# Altium footprint library Power MOSFET.PcbLib: 3 footprints
Each footprint in its own frame and in the unit in brackets; x right, y up, seen from the top. Pads: shape width x height; smd on the part's side, far side on the other; paste and mask are expansions set on the pad; w line width, h text height; cw(c..) or ccw(c..) is an arc to the next point about the centre after c.
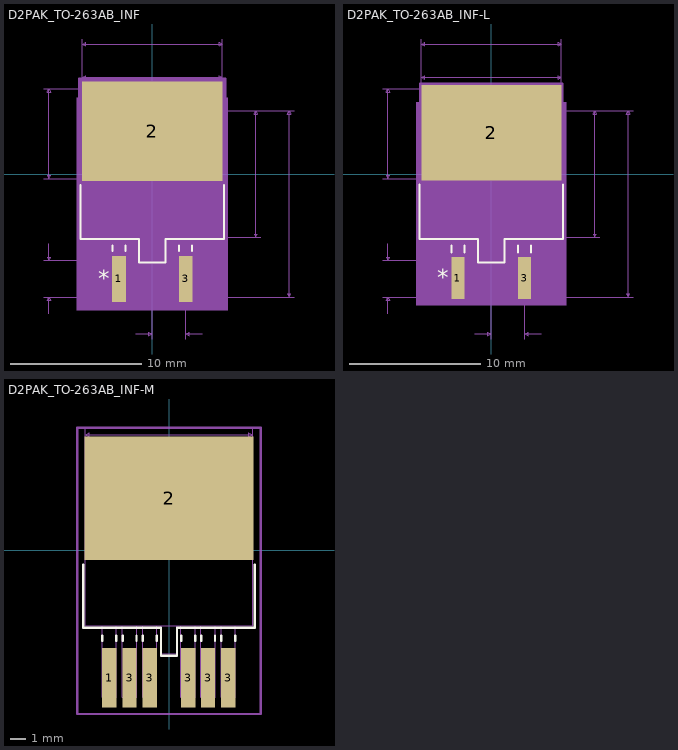
[diagram p0: the footprints below, top view; thin cyan lines are the x and y axes]

## D2PAK_TO-263AB_INF [mil]
pads (3):
  rect 41x138 smd paste+0 mask+0: 1(-100,-314) 3(100,-314)
  rect 422x298 smd paste+0 mask+0: 2(0,128)
Top Overlay:
  lines w6: -215,-33.47 -215,-195 -40,-195 -40,-265 40,-265 40,-195 215,-195 215,-33.47 ; -119.5,-231 -119.5,-214 ; -80.5,-231 -80.5,-214 ; 80.5,-231 80.5,-214 ; 119.5,-231 119.5,-214
  text "*" at -162.5,-339 h50
Mechanical 5:
  region: -226,229 226,229 226,-408 -226,-408
Mechanical 7:
  lines w1: -325,-369 0,-369 425,-369 ; -325,-259 0,-259 ; -325,-14 0,-14 ; -325,256 0,256 ; -310,-419 -310,-369 ; -310,-209 -310,-259 ; -210,305 -210,0 -210,405 ; -50,-479.5 0,-479.5 ; 0,-494.5 0,-279.5 ; 0,-190 325,-190 ; 100,-494.5 100,-279.5 ; 150,-479.5 100,-479.5 ; 210,305 210,0 210,405 ; 325,190 0,190 425,190 ; -310,-369 -315,-379 -305,-379 -310,-369 ; -310,-259 -315,-249 -305,-249 -310,-259 ; -310,-14 -310,256 ; -310,-14 -315,-4 -305,-4 -310,-14 ; -310,256 -315,246 -305,246 -310,256 ; -210,290 210,290 ; -210,290 -200,295 -200,285 -210,290 ; -210,390 210,390 ; -210,390 -200,395 -200,385 -210,390 ; 0,-479.5 -10,-474.5 -10,-484.5 0,-479.5 ; 100,-479.5 110,-474.5 110,-484.5 100,-479.5 ; 210,290 200,295 200,285 210,290 ; 210,390 200,395 200,385 210,390 ; 310,-190 310,190 ; 310,-190 305,-180 315,-180 310,-190 ; 310,190 305,180 315,180 310,190 ; 410,-369 410,190 ; 410,-369 405,-359 415,-359 410,-369 ; 410,190 405,180 415,180 410,190
  text "Default Padstyle: RX41Y138D0T" at -362.5,-719 h50
  text "Large Padstyle: RX422Y298D0T" at -350,-794 h50
  text "Alt 1 Padstyle: OX60Y90D30P" at -337.5,-869 h50
  text "Alt 2 Padstyle: OX90Y60D30P" at -337.5,-944 h50
  text "0.38in/9.652mm" at 330,-12.5 h25
  text "0.27in/6.858mm" at -505,108.5 h25
  text "0.42in/10.668mm" at -93.75,410 h25
  text "0.42in/10.668mm" at -93.75,310 h25
  text "0.559in/14.199mm" at 430,-136.5 h25
  text "0.11in/2.794mm" at -505,-326.5 h25
  text "0.1in/2.54mm" at -25,-524.5 h25
Mechanical 13:
  lines w1: -210,-190 210,-190 210,190 -210,190 -210,-190 ; -119.5,-369 -119.5,-190 -80.5,-190 -80.5,-369 -119.5,-369 ; -35,-260 -35,-190 35,-190 35,-260 -35,-260 ; 80.5,-369 80.5,-190 119.5,-190 119.5,-369 80.5,-369
  text "*" at -112.5,-205 h50
Mechanical 15:
  region: -220,-200 -220,200 -220,287 220,287 220,200 220,-200 130.5,-200 130.5,-393 -130.5,-393 -130.5,-200
  lines w6: -220,-200 -220,200 -220,287 220,287 220,200 220,-200 130.5,-200 130.5,-393 -130.5,-393 -130.5,-200 -220,-200
3D body: height 10, standoff 0, extent 0,0 10,10

## D2PAK_TO-263AB_INF-L [mil]
pads (3):
  rect 39x126 smd paste+0 mask+0: 1(-100,-312) 3(100,-312)
  rect 420x286 smd paste+0 mask+0: 2(0,124)
Top Overlay:
  lines w6: -215,-31.11 -215,-195 -40,-195 -40,-265 40,-265 40,-195 215,-195 215,-31.11 ; -119.5,-235 -119.5,-214 ; -80.5,-235 -80.5,-214 ; 80.5,-235 80.5,-214 ; 119.5,-235 119.5,-214
  text "*" at -162.5,-337 h50
Mechanical 5:
  region: -225,215 225,215 225,-394 -225,-394
Mechanical 7:
  lines w1: -325,-369 0,-369 425,-369 ; -325,-259 0,-259 ; -325,-14 0,-14 ; -325,256 0,256 ; -310,-419 -310,-369 ; -310,-209 -310,-259 ; -210,305 -210,0 -210,405 ; -50,-479.5 0,-479.5 ; 0,-494.5 0,-279.5 ; 0,-190 325,-190 ; 100,-494.5 100,-279.5 ; 150,-479.5 100,-479.5 ; 210,305 210,0 210,405 ; 325,190 0,190 425,190 ; -310,-369 -315,-379 -305,-379 -310,-369 ; -310,-259 -315,-249 -305,-249 -310,-259 ; -310,-14 -310,256 ; -310,-14 -315,-4 -305,-4 -310,-14 ; -310,256 -315,246 -305,246 -310,256 ; -210,290 210,290 ; -210,290 -200,295 -200,285 -210,290 ; -210,390 210,390 ; -210,390 -200,395 -200,385 -210,390 ; 0,-479.5 -10,-474.5 -10,-484.5 0,-479.5 ; 100,-479.5 110,-474.5 110,-484.5 100,-479.5 ; 210,290 200,295 200,285 210,290 ; 210,390 200,395 200,385 210,390 ; 310,-190 310,190 ; 310,-190 305,-180 315,-180 310,-190 ; 310,190 305,180 315,180 310,190 ; 410,-369 410,190 ; 410,-369 405,-359 415,-359 410,-369 ; 410,190 405,180 415,180 410,190
  text "Default Padstyle: RX39Y126D0T" at -362.5,-719 h50
  text "Large Padstyle: RX420Y286D0T" at -350,-794 h50
  text "Alt 1 Padstyle: OX60Y90D30P" at -337.5,-869 h50
  text "Alt 2 Padstyle: OX90Y60D30P" at -337.5,-944 h50
  text "0.38in/9.652mm" at 330,-12.5 h25
  text "0.27in/6.858mm" at -505,108.5 h25
  text "0.42in/10.668mm" at -93.75,410 h25
  text "0.42in/10.668mm" at -93.75,310 h25
  text "0.559in/14.199mm" at 430,-134.5 h25
  text "0.11in/2.794mm" at -505,-326.5 h25
  text "0.1in/2.54mm" at -25,-524.5 h25
Mechanical 13:
  lines w1: -210,-190 210,-190 210,190 -210,190 -210,-190 ; -119.5,-369 -119.5,-190 -80.5,-190 -80.5,-369 -119.5,-369 ; -35,-260 -35,-190 35,-190 35,-260 -35,-260 ; 80.5,-369 80.5,-190 119.5,-190 119.5,-369 80.5,-369
  text "*" at -112.5,-205 h50
Mechanical 15:
  region: -214,-194 -214,194 -214,271 214,271 214,194 214,-194 123.5,-194 123.5,-379 -123.5,-379 -123.5,-194
  lines w6: -214,-194 -214,194 -214,271 214,271 214,194 214,-194 123.5,-194 123.5,-379 -123.5,-379 -123.5,-194 -214,-194
3D body: height 10, standoff 0, extent 0,0 10,10

## D2PAK_TO-263AB_INF-M [mil]
pads (7):
  rect 36x150 smd paste+0 mask+0: 1(-150,-320) 3(-99,-320) 3(-48,-320) 3(48,-320) 3(98,-320) 3(149,-320)
  rect 424x310 smd paste+0 mask+0: 2(0,130)
Top Overlay:
  lines w6: -215,-35.75 -215,-195 -20,-195 -20,-212.5 -20,-247.5 -20,-265 20,-265 20,-195 215,-195 215,-35.75 ; -167.5,-227 -167.5,-214 ; -132.5,-227 -132.5,-214 ; -116.5,-227 -116.5,-214 ; -81.5,-227 -81.5,-214 ; -65.5,-227 -65.5,-214 ; -30.5,-227 -30.5,-214 ; 30.5,-227 30.5,-214 ; 65.5,-227 65.5,-214 ; 80.5,-227 80.5,-214 ; 115.5,-227 115.5,-214 ; 131.5,-227 131.5,-214 ; 166.5,-227 166.5,-214
Mechanical 7:
  lines w1: -210,0 -210,305 ; 210,0 210,305 ; -210,290 -200,285 -200,295 -210,290 ; -210,290 210,290 ; 210,290 200,285 200,295 210,290
Mechanical 13:
  lines w1: -168,-190 -168,-369 -132.5,-369 -132.5,-190 ; -120,-190 -80.5,-190 ; -117,-190 -117,-369 -81.5,-369 -81.5,-190 ; -66,-190 -66,-369 -30.5,-369 -30.5,-190 ; -35,-190 20,-190 20,-260 -20,-260 -20,-242.5 -20,-207.5 -20,-190 ; 30,-190 30,-369 65.5,-369 65.5,-190 ; 80,-190 80,-369 115.5,-369 115.5,-190 ; 80.5,-190 119.5,-190 ; 131,-190 131,-369 166.5,-369 166.5,-190 ; -210,-190 -210,190 210,190 210,-190 -210,-190
Mechanical 15:
  lines w6: -230,-411 -230,-210 -230,210 -230,307 230,307 230,210 230,-210 230,-411 -230,-411
3D body: height 10, standoff 0, extent 0,0 10,10